# Altium integrated library DS04-254-2-01BK-SMT.IntLib: 1 symbol
Pins are listed as number, name and electrical type; pins without a type are passive.

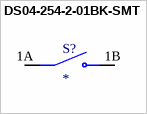
[diagram p0: symbol DS04-254-2-01BK-SMT]

## DS04-254-2-01BK-SMT
designator S?
1 Position, Surface Mount, 2.54 mm Pitch, Flat Slide Actuator, Flat Bottom, SMT Pin, DIP Switch; MP: DS04-254-2-01BK-SMT; MF: CUI Devices; Price: None; Purchase-URL: https://pricing.snapeda.com/search/part/DS04-254-2-01BK-SMT/?ref=eda; Package: None; Check_prices: https://www.snapeda.com/parts/DS04-254-2-01BK-SMT/CUI+Devices/view-part/?ref=eda; SnapEDA_Link: https://www.snapeda.com/parts/DS04-254-2-01BK-SMT/CUI+Devices/view-part/?ref=snap; Value: *; Availability: In Stock; CUI_purchase_URL: https://www.cuidevices.com/product/switches/dip-switches/ds04-254-smt-series?utm_source=snapeda.com&utm_medium=referral&utm_campaign=snapedaBOM
footprint SW_DS04-254-2-01BK-SMT
pins: 1A COM, 1B NO